# Altium schematic symbol library SchLib.SchLib: 5 symbols
Pins are listed as number, name and electrical type; pins without a type are passive.

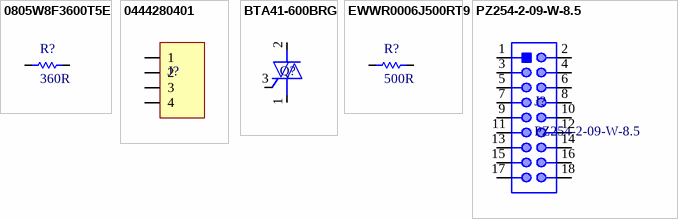
[diagram p0: symbols 0805W8F3600T5E to PZ254-2-09-W-8.5]

## 0805W8F3600T5E
designator R?, comment 360R
125mW Thick Film Resistors 150V ±100ppm/℃ ±1% 360Ω 0805 Chip Resistor - Surface Mount ROHS; Manufacturer: Uni-Royal; Manufacturer Part Number: 0805W8F3600T5E; LCSC Part Number: C17646; Item Type: Resistor; Package: 0805; ComponentLink1Description: LCSC; ComponentLink1URL: https://www.lcsc.com/product-detail/Chip-Resistor-Surface-Mount_UNI-ROYAL-Uniroyal-Elec-0805W8F3600T5E_C17646.html
footprint RES-0805 (SMD 0805)
pins: 1, 2

## 0444280401
designator J?  (value not drawn)
Connector Header Through Hole, Right Angle 4 position 0.118" (3.00mm); Manufacturer: Molex; Manufacturer Part Number: 0444280401; Digikey Part Number: 23-0444280401-ND; Item Type: Connector; Package: THT; ComponentLink1Description: Digikey; ComponentLink1URL: https://www.digikey.my/en/products/detail/molex/0444280401/513258?s=N4IgTCBcDaIAwBYlgByLgRhAXQL5A
pins: 1, 2, 3, 4

## BTA41-600BRG
designator Q?
80mA 50mA 600V TOP-3 Thyristors (SCR)/Modules ROHS; Manufacturer: STMicroelectronics; Manufacturer Part Number: BTA41-600BRG; ComponentLink1Description: LCSC Link; ComponentLink1URL: https://www.lcsc.com/product-detail/Thyristors-SCR-Modules_STMicroelectronics-BTA41-600BRG_C9103.html; LCSC Part Number: C9103; Item Type: Thyristors; Package: TOP-3
footprint TO552P1530X450X2110-3B
pins: 1 M1, 2 M2, 3 G

## EWWR0006J500RT9
designator R?, comment 500R
Wirewound Resistors 500Ω 6W ±250ppm/℃ ±5% Plugin,D8xL23.5mm Through Hole Resistors ROHS; Manufacturer: RESI; Manufacturer Part Number: EWWR0006J500RT9; LCSC Part Number: C348990; Item Type: Resistor; Package: Plugin,D8xL23.5mm; ComponentLink1Description: LCSC Link; ComponentLink1URL: https://www.lcsc.com/product-detail/Through-Hole-Resistors_RESI-EWWR0006J500RT9_C348990.html
footprint EWWR0006J500RT9
pins: 1, 2

## PZ254-2-09-W-8.5
designator J?
3A Bend insert Policy 2.5mm 260℃@10S 18P 6mm -40℃~+105℃ 2.54mm Double Row Black 2.54mm 2x9P Push-Pull,P=2.54mm Pin Headers ROHS; Manufacturer: HCTL; Item Type: Header; Manufacturer Part Number: PZ254-2-09-W-8.5; LCSC Paart Number: C2894989; Package: Push-Pull,P=2.54mm
footprint PZ254-2-09-W-8.5
pins: 1, 2, 3, 4, 5, 6, 7, 8, 9, 10, 11, 12, 13, 14, 15, 16, 17, 18